# Altium integrated library MGTF.IntLib: 1 symbol
Pins are listed as number, name and electrical type; pins without a type are passive.

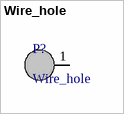
[diagram p0: symbol Wire_hole]

## Wire_hole
designator P?
МГТФ 0.35
footprint MGTF_0.35_fat
footprint MGTF_0.35_normal
footprint MGTF_0.35_thin
footprint MGTF_0.5_fat
footprint MGTF_0.5_normal
footprint MGTF_0.5_thin
pins: 1